# Altium footprint library QFP_Thin_Rect_65P_Side_N.PcbLib: 1 footprints
Each footprint in its own frame and in the unit in brackets; x right, y up, seen from the top. Pads: shape width x height; smd on the part's side, far side on the other; paste and mask are expansions set on the pad; w line width, h text height; cw(c..) or ccw(c..) is an arc to the next point about the centre after c.
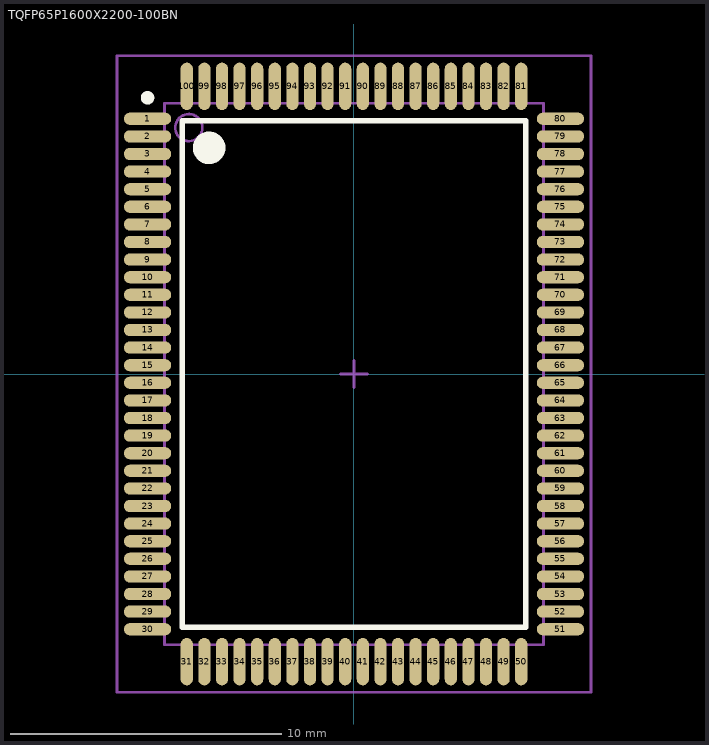
[diagram p0: the footprint, top view; thin cyan lines are the x and y axes]

## TQFP65P1600X2200-100BN [mm] "Thin QFP, 100-Leads, Body 20x14mm, Pitch 0.65mm, IPC Medium Density"
height 1.6
pads (100):
  oval 1.75x0.45 smd: 1(-7.625,9.425) 2(-7.625,8.775) 3(-7.625,8.125) 4(-7.625,7.475) 5(-7.625,6.825) 6(-7.625,6.175) 7(-7.625,5.525) 8(-7.625,4.875) 9(-7.625,4.225) 10(-7.625,3.575) 11(-7.625,2.925) 12(-7.625,2.275) 13(-7.625,1.625) 14(-7.625,0.975) 15(-7.625,0.325) 16(-7.625,-0.325) 17(-7.625,-0.975) 18(-7.625,-1.625) 19(-7.625,-2.275) 20(-7.625,-2.925) 21(-7.625,-3.575) 22(-7.625,-4.225) 23(-7.625,-4.875) 24(-7.625,-5.525) 25(-7.625,-6.175) 26(-7.625,-6.825) 27(-7.625,-7.475) 28(-7.625,-8.125) 29(-7.625,-8.775) 30(-7.625,-9.425) 51(7.625,-9.425) 52(7.625,-8.775) 53(7.625,-8.125) 54(7.625,-7.475) 55(7.625,-6.825) 56(7.625,-6.175) 57(7.625,-5.525) 58(7.625,-4.875) 59(7.625,-4.225) 60(7.625,-3.575) 61(7.625,-2.925) 62(7.625,-2.275) 63(7.625,-1.625) 64(7.625,-0.975) 65(7.625,-0.325) 66(7.625,0.325) 67(7.625,0.975) 68(7.625,1.625) 69(7.625,2.275) 70(7.625,2.925) 71(7.625,3.575) 72(7.625,4.225) 73(7.625,4.875) 74(7.625,5.525) 75(7.625,6.175) 76(7.625,6.825) 77(7.625,7.475) 78(7.625,8.125) 79(7.625,8.775) 80(7.625,9.425)
  oval 0.45x1.75 smd: 31(-6.175,-10.625) 32(-5.525,-10.625) 33(-4.875,-10.625) 34(-4.225,-10.625) 35(-3.575,-10.625) 36(-2.925,-10.625) 37(-2.275,-10.625) 38(-1.625,-10.625) 39(-0.975,-10.625) 40(-0.325,-10.625) 41(0.325,-10.625) 42(0.975,-10.625) 43(1.625,-10.625) 44(2.275,-10.625) 45(2.925,-10.625) 46(3.575,-10.625) 47(4.225,-10.625) 48(4.875,-10.625) 49(5.525,-10.625) 50(6.175,-10.625) 81(6.175,10.625) 82(5.525,10.625) 83(4.875,10.625) 84(4.225,10.625) 85(3.575,10.625) 86(2.925,10.625) 87(2.275,10.625) 88(1.625,10.625) 89(0.975,10.625) 90(0.325,10.625) 91(-0.325,10.625) 92(-0.975,10.625) 93(-1.625,10.625) 94(-2.275,10.625) 95(-2.925,10.625) 96(-3.575,10.625) 97(-4.225,10.625) 98(-4.875,10.625) 99(-5.525,10.625) 100(-6.175,10.625)
Top Overlay:
  circle w0.25: c-7.625,10.2 r0.125
  circle w0.6: c-5.35,8.35 r0.3
  lines w0.2: -6.35,-9.35 -6.35,9.35 6.35,9.35 6.35,-9.35 -6.35,-9.35
Mechanical 13:
  circle w0.1: c-6.1,9.1 r0.5
  lines w0.1: -7,-10 -7,10 7,10 7,-10 -7,-10
Mechanical 15:
  lines w0.1: -0.5,0 0.5,0 ; 0,-0.5 0,0.5 ; -8.75,-11.75 -8.75,11.75 8.75,11.75 8.75,-11.75 -8.75,-11.75
3D body: height 1.6, standoff 0, extent -7,-10 7,10